# Altium integrated library ECS-160-18-4XEN.IntLib: 1 symbol
Pins are listed as number, name and electrical type; pins without a type are passive.

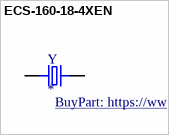
[diagram p0: symbol ECS-160-18-4XEN]

## ECS-160-18-4XEN
designator Y
16MHz Â±30ppm Crystal 18pF 40 Ohms HC-49/US; MP: ECS-160-18-4XEN; MF: ECS Inc.; DigiKey-Purchase-URL: https://snapeda.com/shop?store=DigiKey&id=2460745; Package: HC-49/US ECS International; Availability: Good; Price: None; Mouser-Purchase-URL: https://snapeda.com/shop?store=Mouser&id=2460745; Arrow_Electronics-Purchase-URL: https://snapeda.com/shop?store=Arrow+Electronics&id=2460745; SnapEDA_Link: https://www.snapeda.com/parts/ECS-160-18-4XEN/ECS%20Inc./view-part/2460745/?ref=snap; Value: *; BuyPart: https://www.snapeda.com/parts/ECS-160-18-4XEN/ECS%20Inc./view-part/2460745/?ref=eda
footprint XTAL_ECS-160-18-4XEN
pins: 1, 2